# Altium schematic symbol library DCDC_Converter_4_Channel.SchLib: 27 symbols
Pins are listed as number, name and electrical type; pins without a type are passive.

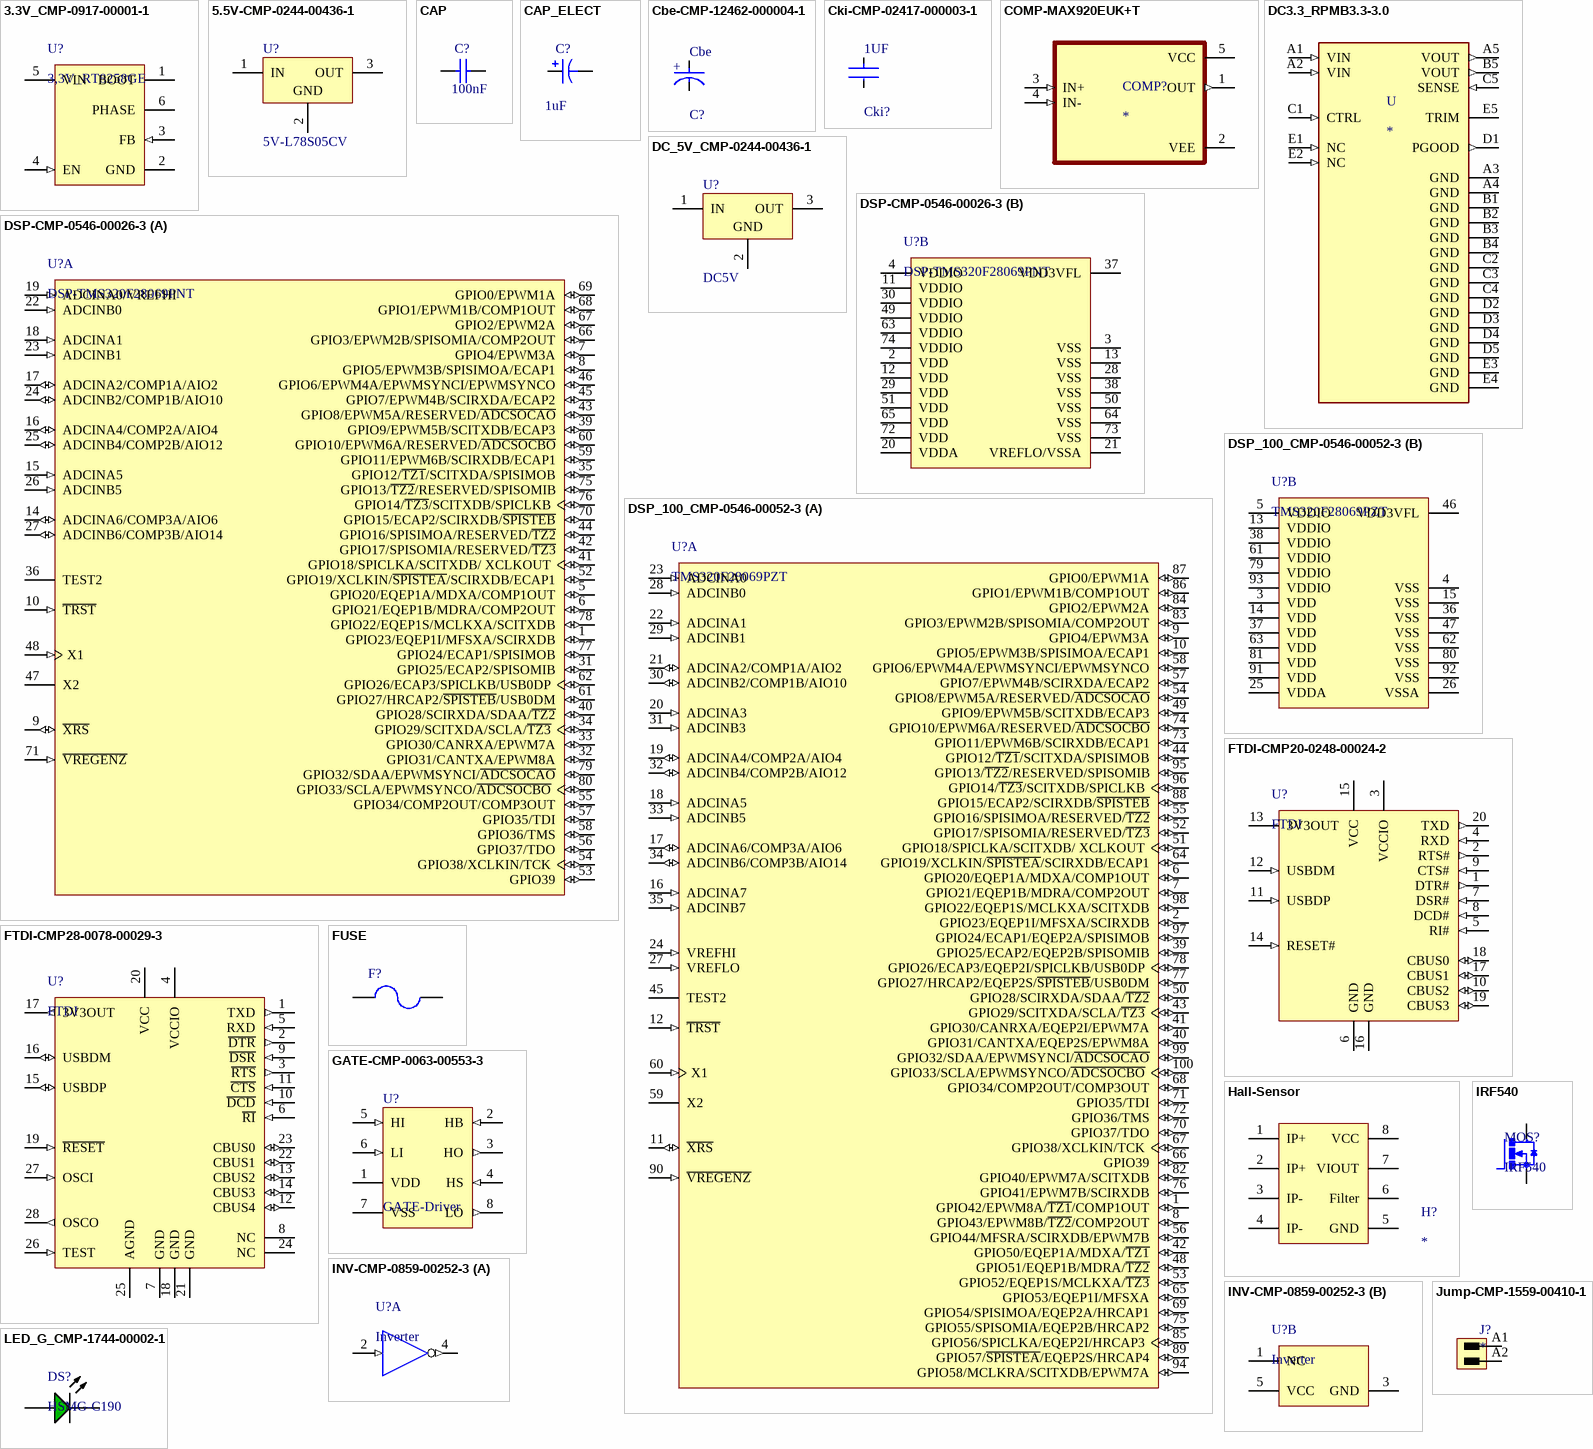
[diagram p0: symbols 3.3V_CMP-0917-00001-1 to LED_G_CMP-1744-00002-1]

## 3.3V_CMP-0917-00001-1
designator U?, comment 3,3V_RT8258GE
1.2 A, 24 V, 700 kHz Step-Down Converter, -40 to 85 degC, 6-Pin SOT-23, RoHS; Manufacturer: Richtek Technology; Output Current: 1.2 A; Wide Operating Input Voltage Range: 4.5 to 24 V; Switch on Resistance: 0.3 Ohm; Fixed Switching Frequency: 700 kHz; Adjustable Output Voltage Range: 0.8 to 15 V; PackageReference: SOT-23-6; PartNumber: RT8258GE; PackageDescription: 6-Pin Small Outline Transistor, Body 2.8955 x 1.6 mm, Pitch 0.9395 mm; ComponentLink2URL: http://www.richtek.com/download_ds.jsp?s=420; ComponentLink1URL: http://www.richtek.com/; Mounting Technology: Surface Mount; RoHS: TRUE; ComponentLink1Description: Manufacturer URL; DatasheetVersion: Dec-11; Temperature Range: -40 to 85 degC; ComponentLink2Description: Datasheet
footprint RCHT-SOT-23-6_N (SOT23, 6-Leads, Body 3.1x1.8mm, Pitch 0.95mm, IPC Medium Density)
pins: 1 BOOT "Gate Driver Bootstrap Input Pin. Connect a 10nF or greater capacitor between PHASE and BOOT pins to supply the MOSFET driver.", 2 GND (power) "Ground Pin. This pin should be connected to the (-) terminal of the output capacitor and it should be kept away from the D1 and input capacitor for noise prevention.", 3 FB (in) "Output Voltage Feedback Input Pin. An external resistor divider from the output to GND tapped to the FB pin sets the output voltage. The value of the divider resistors also set loop bandwidth.", 4 EN (in) "Chip Enable (Active High). If the EN pin is open, it will be pulled to high by internal circuit.", 5 VIN (power) "Power Supply Input Pin. Bypass VIN to GND with a suitable large capacitor to prevent large voltage spikes from appearing at the input.", 6 PHASE (power) "Power Switching Output Pin. Connect this pin to the output inductor."

## 5.5V-CMP-0244-00436-1
designator U?, comment 5V-L78S05CV
2A Positive Voltage Regulator, 5V, 3-Pin TO-220; PackageVersion: ver3.0; ComponentLink2URL: http://www.st.com/internet/com/TECHNICAL_RESOURCES/TECHNICAL_LITERATURE/DATASHEET/CD00000449.pdf; ComponentLink1Description: Manufacturer URL; DatasheetVersion: 1/03/2010; PackageDescription: TO, Thru-Hole, Vertical, Heatsink Mounted; 3 In-Line Leads; Pitch 2.54 mm; ComponentLink2Description: Datasheet; ComponentLink1URL: http://www.st.com; ComponentLink3Description: Package Specification; PackageReference: TO220; ComponentLink3URL: http://www.st.com/internet/com/TECHNICAL_RESOURCES/TECHNICAL_LITERATURE/PACKAGE_INFORMATION/CD00004649.pdf
footprint TO220 (TO, Thru-Hole, Vertical, Heatsink Mounted; 3 In-Line Leads; Pitch 2.54 mm)
pins: 1 IN (power), 2 GND (power), 3 OUT (power)

## CAP
designator C?, comment 100nF
Capacitor; Value: 100nF
footprint FP_0603_CAP_080 (0.8mm magas 0603 kapacitás)
footprint FP_0805_CAP_085 (0805 kapacitás YAGEO 0.85mm magas)
footprint FP_1206_CAP_125 (1206 kapacitás 1.25 mm)
pins: 1, 2

## CAP_ELECT
designator C?, comment 1uF
Polarized Capacitor; Value: 1uF
footprint FP_3528 (3528 TANTÁL SMD "B"-TOK)
footprint FP_6032
footprint FP_7343
pins: N, P
1 alternate drawing of the same symbol

## Cbe-CMP-12462-000004-1
designator C?, comment Cbe
CAP ALUM 100UF 20% 100V RADIAL / UBX2A101MHL; Manufacturer: Nichicon; Material: Aluminum; Automotive Grade: Grade 0; Ripple Current: 950mA; Leakage Current: 300uA; Life: 1000Hours; Dissipation Factor: 8%; Digikey Description: CAP ALUM 100UF 20% 100V RADIAL; Ipc Land Pattern Name: CAPRD500W75D1300H2650; Value: 100uF; Device Class L3: Aluminum Electrolytic Capacitors; Temperature Range Low: -55°C; Automotive: Yes; Lead Free: Yes; Package: 0; Voltage Rating: 100V; ComponentLink2URL: https://products.nichicon.co.jp/en/pdf/XJA043/e-ubx.pdf; Category: Cap; Device Class L2: Capacitors; Height: 26.5mm; Tolerance: 20%; Temperature Range High: +150°C; Octopart: https://octopart.com/ubx2a101mhl-nichicon-19783083; RoHS: TRUE; Device Class L1: Passive Components; Capacitance: 100uF; ComponentLink2Description: Datasheet; Manufacturer Part Number: UBX2A101MHL; Temperature: -55°C to +150°C
footprint FP-UBX2A101MHL-MFG
pins: 1 C, 2 A
text: +

## Cki-CMP-02417-000003-1
designator Cki?, comment 1UF
CAP CER 1UF 50V Y5V RADIAL / K105Z20Y5VF5TL2; Manufacturer: Vishay BC Components; Tolerance: -20+80%; Capacitance: 1uF; Temperature Characteristic: Y5V; Mouser Description: Multilayer Ceramic Capacitors MLCC - Leaded 1uF 50volts +80/-20% Y5V 2.5mm LS; Lead Free: Yes; RoHS: TRUE; Voltage Rating: 50V; Device Class L1: Passive Components; Octopart: https://octopart.com/k105z20y5vf5tl2-vishay-39475252; Temperature Range Low: -30°C; Digikey Description: CAP CER 1UF 50V Y5V RADIAL; Material: Ceramic; Manufacturer Part Number: K105Z20Y5VF5TL2; Device Class L2: Capacitors; Temperature: -30°C to +85°C; Package: K105Z20Y5VF5TL2; Temperature Range High: +85°C; ComponentLink2Description: Datasheet; Value: 1uF; Category: Cap; Height: 6.6mm; ComponentLink2URL: https://www.vishay.com/docs/45171/kseries.pdf; Device Class L3: Ceramic Capacitors; Automotive: No
footprint FP-K105Z20Y5VF5TL2-MFG
pins: 1, 2

## COMP-MAX920EUK+T
designator COMP?
MAX920 Series 5.5 V 1 nA SMT Single General Purpose Comparator - SOT-23-5; MF: Maxim Integrated; MP: MAX920EUK+T; SnapEDA_Link: https://www.snapeda.com/parts/MAX920EUK+T/Maxim%20Integrated/view-part/1229989/?ref=snap; Price: None; Package: SOT-23-5 Maxim; Value: *; Availability: Unavailable
footprint SOT95P280X145-5N
pins: 1 OUT (out), 2 VEE (power), 3 IN+ (in), 4 IN- (in), 5 VCC (power)

## DC3.3_RPMB3.3-3.0
designator U
Non-Isolated PoL Module DC DC Converter 1 Output 3.3V 3A 4V - 36V Input; MP: RPMB3.3-3.0; MF: Recom Power; Value: *; SnapEDA_Link: https://www.snapeda.com/parts/RPMB3.3-3.0/Recom%20Power/view-part/4614067/?ref=snap; Price: None; Package: BLGA-25 Recom Power; Availability: Unavailable
footprint LGA25S229P5X5_1219X1219X400
pins: A1 VIN (in), A2 VIN (in), A3 GND (power), A4 GND (power), A5 VOUT (out), B1 GND (power), B2 GND (power), B3 GND (power), B4 GND (power), B5 VOUT (out), C1 CTRL (in), C2 GND (power), C3 GND (power), C4 GND (power), C5 SENSE (in), D1 PGOOD (out), D2 GND (power), D3 GND (power), D4 GND (power), D5 GND (power), E1 NC (in), E2 NC (in), E3 GND (power), E4 GND (power), E5 TRIM

## DC_5V_CMP-0244-00436-1
designator U?, comment DC5V
2A Positive Voltage Regulator, 5V, 3-Pin TO-220 / L78S05CV; PackageVersion: ver3.0; ComponentLink2URL: http://www.st.com/internet/com/TECHNICAL_RESOURCES/TECHNICAL_LITERATURE/DATASHEET/CD00000449.pdf; ComponentLink1Description: Manufacturer URL; DatasheetVersion: 1/03/2010; PackageDescription: TO, Thru-Hole, Vertical, Heatsink Mounted; 3 In-Line Leads; Pitch 2.54 mm; ComponentLink2Description: Datasheet; ComponentLink1URL: http://www.st.com; ComponentLink3Description: Package Specification; PackageReference: TO220; ComponentLink3URL: http://www.st.com/internet/com/TECHNICAL_RESOURCES/TECHNICAL_LITERATURE/PACKAGE_INFORMATION/CD00004649.pdf
footprint TO220 (TO, Thru-Hole, Vertical, Heatsink Mounted; 3 In-Line Leads; Pitch 2.54 mm)
pins: 1 IN (power), 2 GND (power), 3 OUT (power)

## DSP-CMP-0546-00026-3
designator U?, comment DSP-TMS320F28069PNT
Piccolo Microcontroller, High-Efficiency 32-Bit CPU, 100 KB, 90 MHz, FPU, VCU, 17 Ch PWM, 40 GPIO, 3.3 V, -40 to 105 degC, 80-Pin LQFP (PN), Green (RoHS & no Sb/Br); Manufacturer: Texas Instruments; CPU: C28x; Timers: 3 32-Bit GP 1 WD; IO Supply (V): 3.3; VCU: Yes; RAM (KB): 100; CAP/QEP: 4/1; CLA: 1; GPIO: 40; USB: 0; Frequency (MHz): 90; 12-bit A/D (#Channels): 14; PWM (Ch): 17; ComponentLink1Description: Manufacturer URL; PackageDescription: 80-Pin Plastic Quad Flat Package, Body 12 x 12 mm, Pitch 0.5 mm; DatasheetVersion: SPRS698D; ComponentLink3Description: Package Specification; Eco Plan: Green (RoHS & no Sb/Br); Mounting Technology: Surface Mount; PartNumber: TMS320F28069PNT; PackageReference: PN0080A; ComponentLink2Description: Datasheet; PackageVersion: 4040135/B; ComponentLink1URL: http://www.ti.com/; FPU: Yes; ComponentLink3URL: http://www.ti.com/lit/ds/symlink/tms320f28066.pdf; ComponentLink2URL: http://www.ti.com/lit/ds/symlink/tms320f28069.pdf; Peak MMACS: 90; Operating Temperature Range (degC): -40 to 105
footprint PN0080A_M (QFP, 80-Leads, Body 12x12mm, Pitch 0.5mm, IPC Low Density)
part A pins: 1 GPIO23/EQEP1I/MFSXA/SCIRXDB (io), 5 GPIO20/EQEP1A/MDXA/COMP1OUT (io), 6 GPIO21/EQEP1B/MDRA/COMP2OUT (io), 7 GPIO4/EPWM3A (io), 8 GPIO5/EPWM3B/SPISIMOA/ECAP1 (io), 9 ~{XRS} (io) "Device Reset (in) and Watchdog Reset (out). Piccolo devices have a built-in power-onreset (POR) and brown-out-reset (BOR) circuitry. As such, no external circuitry is needed to generate a reset pulse. [see datasheet]", 10 ~{TRST} (in) "JTAG test reset with internal pulldown. T\R\S\T\, when driven high, gives the scan system control of the operations of the device. If this signal is not connected or driven low, the device operates in its functional mode", 14 ADCINA6/COMP3A/AIO6 (io), 15 ADCINA5 (in) "ADC Group A, Channel 5 input", 16 ADCINA4/COMP2A/AIO4 (io), 17 ADCINA2/COMP1A/AIO2 (io), 18 ADCINA1 (in) "ADC Group A, Channel 1 input", 19 ADCINA0/VREFHI (in), 22 ADCINB0 (in) "ADC Group B, Channel 0 input", 23 ADCINB1 (in) "ADC Group B, Channel 1 input", 24 ADCINB2/COMP1B/AIO10 (io), 25 ADCINB4/COMP2B/AIO12 (io), 26 ADCINB5 (in) "ADC Group B, Channel 5 input", 27 ADCINB6/COMP3B/AIO14 (io), 31 GPIO25/ECAP2/SPISOMIB (io), 32 GPIO31/CANTXA/EPWM8A (io), 33 GPIO30/CANRXA/EPWM7A (io), 34 GPIO29/SCITXDA/SCLA/~{TZ3} (io), 35 GPIO12/~{TZ1}/SCITXDA/SPISIMOB (io), 36 TEST2 "Test Pin. Reserved for TI. Must be left unconnected.", 39 GPIO9/EPWM5B/SCITXDB/ECAP3 (io), 40 GPIO28/SCIRXDA/SDAA/~{TZ2} (io), 41 GPIO18/SPICLKA/SCITXDB/ XCLKOUT (io), 42 GPIO17/SPISOMIA/RESERVED/~{TZ3} (io), 43 GPIO8/EPWM5A/RESERVED/~{ADCSOCAO} (io), 44 GPIO16/SPISIMOA/RESERVED/~{TZ2} (io), 45 GPIO7/EPWM4B/SCIRXDA/ECAP2 (io), 46 GPIO6/EPWM4A/EPWMSYNCI/EPWMSYNCO (io), 47 X2 "On-chip crystal-oscillator output. A quartz crystal or a ceramic resonator must be connected across X1 and X2. If X2 is not used, it must be left unconnected.", 48 X1 (in) "On-chip crystal-oscillator input. To use this oscillator, a quartz crystal or a ceramic resonator must be connected across X1 and X2. In this case, the XCLKIN path must be disabled by bit 13 in the CLKCTL register.", 52 GPIO19/XCLKIN/~{SPISTEA}/SCIRXDB/ECAP1 (io), 53 GPIO39 (io) "General-purpose input/output 39", 54 GPIO38/XCLKIN/TCK (io), 55 GPIO34/COMP2OUT/COMP3OUT (io), 56 GPIO37/TDO (io), 57 GPIO35/TDI (io), 58 GPIO36/TMS (io), 59 GPIO11/EPWM6B/SCIRXDB/ECAP1 (io), 60 GPIO10/EPWM6A/RESERVED/~{ADCSOCBO} (io), 61 GPIO27/HRCAP2/~{SPISTEB}/USB0DM (io), 62 GPIO26/ECAP3/SPICLKB/USB0DP (io), 66 GPIO3/EPWM2B/SPISOMIA/COMP2OUT (io), 67 GPIO2/EPWM2A (io), 68 GPIO1/EPWM1B/COMP1OUT (io), 69 GPIO0/EPWM1A (io), 70 GPIO15/ECAP2/SCIRXDB/~{SPISTEB} (io), 71 ~{VREGENZ} (in) "Internal VREG Enable/Disable. Pull low to enable VREG, pull high to disable VREG.", 75 GPIO13/~{TZ2}/RESERVED/SPISOMIB (io), 76 GPIO14/~{TZ3}/SCITXDB/SPICLKB (io), 77 GPIO24/ECAP1/SPISIMOB (io), 78 GPIO22/EQEP1S/MCLKXA/SCITXDB (io), 79 GPIO32/SDAA/EPWMSYNCI/~{ADCSOCAO} (io), 80 GPIO33/SCLA/EPWMSYNCO/~{ADCSOCBO} (io)
part B pins: 2 VDD (power) "CPU and Logic Digital Power Pins - no supply source needed when using internal VREG. Tie with 1.2 uF (minimum) ceramic capacitor (10% tolerance) to ground when using internal VREG. Higher value capacitors may be used, but could impact supplyrail ramp-up", 3 VSS (power) "Digital Ground Pins", 4 VDDIO (power) "Digital I/O and Flash Power Pin - Single Supply source when VREG is enabled.", 11 VDDIO (power) "Digital I/O and Flash Power Pin - Single Supply source when VREG is enabled.", 12 VDD (power) "CPU and Logic Digital Power Pins - no supply source needed when using internal VREG. Tie with 1.2 uF (minimum) ceramic capacitor (10% tolerance) to ground when using internal VREG. Higher value capacitors may be used, but could impact supplyrail ramp-up", 13 VSS (power) "Digital Ground Pins", 20 VDDA (power) "Analog Power Pin. Tie with a 2.2-uF capacitor (typical) close to the pin.", 21 VREFLO/VSSA (power) "NOTE: VREFLO is always connected to VSSA on the 80-pin PN and PFP devices.", 28 VSS (power) "Digital Ground Pins", 29 VDD (power) "CPU and Logic Digital Power Pins - no supply source needed when using internal VREG. Tie with 1.2 uF (minimum) ceramic capacitor (10% tolerance) to ground when using internal VREG. Higher value capacitors may be used, but could impact supplyrail ramp-up", 30 VDDIO (power) "Digital I/O and Flash Power Pin - Single Supply source when VREG is enabled.", 37 VDD3VFL (power) "3.3-V Flash Core Power Pin. This pin should be connected to 3.3 V at all times.", 38 VSS (power) "Digital Ground Pins", 49 VDDIO (power) "Digital I/O and Flash Power Pin - Single Supply source when VREG is enabled.", 50 VSS (power) "Digital Ground Pins", 51 VDD (power) "CPU and Logic Digital Power Pins - no supply source needed when using internal VREG. Tie with 1.2 uF (minimum) ceramic capacitor (10% tolerance) to ground when using internal VREG. Higher value capacitors may be used, but could impact supplyrail ramp-up", 63 VDDIO (power) "Digital I/O and Flash Power Pin - Single Supply source when VREG is enabled.", 64 VSS (power) "Digital Ground Pins", 65 VDD (power) "CPU and Logic Digital Power Pins - no supply source needed when using internal VREG. Tie with 1.2 uF (minimum) ceramic capacitor (10% tolerance) to ground when using internal VREG. Higher value capacitors may be used, but could impact supplyrail ramp-up", 72 VDD (power) "CPU and Logic Digital Power Pins - no supply source needed when using internal VREG. Tie with 1.2 uF (minimum) ceramic capacitor (10% tolerance) to ground when using internal VREG. Higher value capacitors may be used, but could impact supplyrail ramp-up", 73 VSS (power) "Digital Ground Pins", 74 VDDIO (power) "Digital I/O and Flash Power Pin - Single Supply source when VREG is enabled."

## DSP_100_CMP-0546-00052-3
designator U?, comment TMS320F28069PZT
Piccolo Microcontroller, High-Efficiency 32-Bit CPU, 100 KB, 90 MHz, FPU, VCU, 19 Ch PWM, 54 GPIO, 3.3 V, -40 to 105 degC, 100-Pin LQFP (PZ), Green (RoHS & no Sb/Br); Manufacturer: Texas Instruments; CAP/QEP: 7/2; Peak MMACS: 90; IO Supply (V): 3.3; 12-bit A/D (#Channels): 16; PWM (Ch): 19; CLA: 1; Timers: 3 32-Bit GP 1 WD; VCU: Yes; RAM (KB): 100; CPU: C28x; GPIO: 54; USB: 0; PackageVersion: 4040149/B; Operating Temperature Range (degC): -40 to 105; Mounting Technology: Surface Mount; ComponentLink2URL: http://www.ti.com/lit/ds/symlink/tms320f28069.pdf; DatasheetVersion: SPRS698D; PartNumber: TMS320F28069PZT; FPU: Yes; Frequency (MHz): 90; ComponentLink3Description: Package Specification; ComponentLink3URL: http://www.ti.com/lit/ds/symlink/tms320f28066.pdf; PackageDescription: 100-Pin Plastic Quad Flat Package, Body 14 x 14 mm, Pitch 0.5 mm; PackageReference: PZ0100A; ComponentLink1URL: http://www.ti.com/; ComponentLink2Description: Datasheet; ComponentLink1Description: Manufacturer URL; Eco Plan: Green (RoHS & no Sb/Br)
footprint PZ0100A_N (QFP,100-Leads, Body 14x14mm, Pitch 0.5mm, IPC Medium Density)
part A pins: 1 GPIO42/EPWM8A/~{TZ1}/COMP1OUT (io), 2 GPIO23/EQEP1I/MFSXA/SCIRXDB (io), 6 GPIO20/EQEP1A/MDXA/COMP1OUT (io), 7 GPIO21/EQEP1B/MDRA/COMP2OUT (io), 8 GPIO43/EPWM8B/~{TZ2}/COMP2OUT (io), 9 GPIO4/EPWM3A (io), 10 GPIO5/EPWM3B/SPISIMOA/ECAP1 (io), 11 ~{XRS} (io) "Device Reset (in) and Watchdog Reset (out). Piccolo devices have a built-in power-onreset (POR) and brown-out-reset (BOR) circuitry. As such, no external circuitry is needed to generate a reset pulse. [see datasheet]", 12 ~{TRST} (in) "JTAG test reset with internal pulldown. T\R\S\T\, when driven high, gives the scan system control of the operations of the device. If this signal is not connected or driven low, the device operates in its functional mode", 16 ADCINA7 (in) "ADC Group A, Channel 7 input", 17 ADCINA6/COMP3A/AIO6 (io), 18 ADCINA5 (in) "ADC Group A, Channel 5 input", 19 ADCINA4/COMP2A/AIO4 (io), 20 ADCINA3 (in) "ADC Group A, Channel 3 input", 21 ADCINA2/COMP1A/AIO2 (io), 22 ADCINA1 (in) "ADC Group A, Channel 1 input", 23 ADCINA0 (in) "ADC Group A, Channel 0 input.", 24 VREFHI (in) "ADC External Reference - only used when in ADC external reference mode.", 27 VREFLO (in), 28 ADCINB0 (in) "ADC Group B, Channel 0 input", 29 ADCINB1 (in) "ADC Group B, Channel 1 input", 30 ADCINB2/COMP1B/AIO10 (io), 31 ADCINB3 (in) "ADC Group B, Channel 3 input", 32 ADCINB4/COMP2B/AIO12 (io), 33 ADCINB5 (in) "ADC Group B, Channel 5 input", 34 ADCINB6/COMP3B/AIO14 (io), 35 ADCINB7 (in) "ADC Group B, Channel 7 input", 39 GPIO25/ECAP2/EQEP2B/SPISOMIB (io), 40 GPIO31/CANTXA/EQEP2S/EPWM8A (io), 41 GPIO30/CANRXA/EQEP2I/EPWM7A (io), 42 GPIO50/EQEP1A/MDXA/~{TZ1} (io), 43 GPIO29/SCITXDA/SCLA/~{TZ3} (io), 44 GPIO12/~{TZ1}/SCITXDA/SPISIMOB (io), 45 TEST2 "Test Pin. Reserved for TI. Must be left unconnected.", 48 GPIO51/EQEP1B/MDRA/~{TZ2} (io), 49 GPIO9/EPWM5B/SCITXDB/ECAP3 (io), 50 GPIO28/SCIRXDA/SDAA/~{TZ2} (io), 51 GPIO18/SPICLKA/SCITXDB/ XCLKOUT (io), 52 GPIO17/SPISOMIA/RESERVED/~{TZ3} (io), 53 GPIO52/EQEP1S/MCLKXA/~{TZ3} (io), 54 GPIO8/EPWM5A/RESERVED/~{ADCSOCAO} (io), 55 GPIO16/SPISIMOA/RESERVED/~{TZ2} (io), 56 GPIO44/MFSRA/SCIRXDB/EPWM7B (io), 57 GPIO7/EPWM4B/SCIRXDA/ECAP2 (io), 58 GPIO6/EPWM4A/EPWMSYNCI/EPWMSYNCO (io), 59 X2 "On-chip crystal-oscillator output. A quartz crystal or a ceramic resonator must be connected across X1 and X2. If X2 is not used, it must be left unconnected.", 60 X1 (in) "On-chip crystal-oscillator input. To use this oscillator, a quartz crystal or a ceramic resonator must be connected across X1 and X2. In this case, the XCLKIN path must be disabled by bit 13 in the CLKCTL register.", 64 GPIO19/XCLKIN/~{SPISTEA}/SCIRXDB/ECAP1 (io), 65 GPIO53/EQEP1I/MFSXA (io), 66 GPIO39 (io) "General-purpose input/output 39", 67 GPIO38/XCLKIN/TCK (io), 68 GPIO34/COMP2OUT/COMP3OUT (io), 69 GPIO54/SPISIMOA/EQEP2A/HRCAP1 (io), 70 GPIO37/TDO (io), 71 GPIO35/TDI (io), 72 GPIO36/TMS (io), 73 GPIO11/EPWM6B/SCIRXDB/ECAP1 (io), 74 GPIO10/EPWM6A/RESERVED/~{ADCSOCBO} (io), 75 GPIO55/SPISOMIA/EQEP2B/HRCAP2 (io), 76 GPIO41/EPWM7B/SCIRXDB (io), 77 GPIO27/HRCAP2/EQEP2S/~{SPISTEB}/USB0DM (io), 78 GPIO26/ECAP3/EQEP2I/SPICLKB/USB0DP (io), 82 GPIO40/EPWM7A/SCITXDB (io), 83 GPIO3/EPWM2B/SPISOMIA/COMP2OUT (io), 84 GPIO2/EPWM2A (io), 85 GPIO56/SPICLKA/EQEP2I/HRCAP3 (io), 86 GPIO1/EPWM1B/COMP1OUT (io), 87 GPIO0/EPWM1A (io), 88 GPIO15/ECAP2/SCIRXDB/~{SPISTEB} (io), 89 GPIO57/~{SPISTEA}/EQEP2S/HRCAP4 (io), 90 ~{VREGENZ} (in) "Internal VREG Enable/Disable. Pull low to enable VREG, pull high to disable VREG.", 94 GPIO58/MCLKRA/SCITXDB/EPWM7A (io), 95 GPIO13/~{TZ2}/RESERVED/SPISOMIB (io), 96 GPIO14/~{TZ3}/SCITXDB/SPICLKB (io), 97 GPIO24/ECAP1/EQEP2A/SPISIMOB (io), 98 GPIO22/EQEP1S/MCLKXA/SCITXDB (io), 99 GPIO32/SDAA/EPWMSYNCI/~{ADCSOCAO} (io), 100 GPIO33/SCLA/EPWMSYNCO/~{ADCSOCBO} (io)
part B pins: 3 VDD (power) "CPU and Logic Digital Power Pins - no supply source needed when using internal VREG. Tie with 1.2 uF (minimum) ceramic capacitor (10% tolerance) to ground when using internal VREG. Higher value capacitors may be used, but could impact supplyrail ramp-up", 4 VSS (power) "Digital Ground Pins", 5 VDDIO (power) "Digital I/O and Flash Power Pin - Single Supply source when VREG is enabled.", 13 VDDIO (power) "Digital I/O and Flash Power Pin - Single Supply source when VREG is enabled.", 14 VDD (power) "CPU and Logic Digital Power Pins - no supply source needed when using internal VREG. Tie with 1.2 uF (minimum) ceramic capacitor (10% tolerance) to ground when using internal VREG. Higher value capacitors may be used, but could impact supplyrail ramp-up", 15 VSS (power) "Digital Ground Pins", 25 VDDA (power) "Analog Power Pin. Tie with a 2.2-uF capacitor (typical) close to the pin.", 26 VSSA (power) "Analog Ground Pin.", 36 VSS (power) "Digital Ground Pins", 37 VDD (power) "CPU and Logic Digital Power Pins - no supply source needed when using internal VREG. Tie with 1.2 uF (minimum) ceramic capacitor (10% tolerance) to ground when using internal VREG. Higher value capacitors may be used, but could impact supplyrail ramp-up", 38 VDDIO (power) "Digital I/O and Flash Power Pin - Single Supply source when VREG is enabled.", 46 VDD3VFL (power) "3.3-V Flash Core Power Pin. This pin should be connected to 3.3 V at all times.", 47 VSS (power) "Digital Ground Pins", 61 VDDIO (power) "Digital I/O and Flash Power Pin - Single Supply source when VREG is enabled.", 62 VSS (power) "Digital Ground Pins", 63 VDD (power) "CPU and Logic Digital Power Pins - no supply source needed when using internal VREG. Tie with 1.2 uF (minimum) ceramic capacitor (10% tolerance) to ground when using internal VREG. Higher value capacitors may be used, but could impact supplyrail ramp-up", 79 VDDIO (power) "Digital I/O and Flash Power Pin - Single Supply source when VREG is enabled.", 80 VSS (power) "Digital Ground Pins", 81 VDD (power) "CPU and Logic Digital Power Pins - no supply source needed when using internal VREG. Tie with 1.2 uF (minimum) ceramic capacitor (10% tolerance) to ground when using internal VREG. Higher value capacitors may be used, but could impact supplyrail ramp-up", 91 VDD (power) "CPU and Logic Digital Power Pins - no supply source needed when using internal VREG. Tie with 1.2 uF (minimum) ceramic capacitor (10% tolerance) to ground when using internal VREG. Higher value capacitors may be used, but could impact supplyrail ramp-up", 92 VSS (power) "Digital Ground Pins", 93 VDDIO (power) "Digital I/O and Flash Power Pin - Single Supply source when VREG is enabled."

## FTDI-CMP20-0248-00024-2
designator U?, comment FTDI
USB to Full-Handshake UART Interface Chip, UHCI/OHCI/EHCI Compatible, USB 2.0 Compatible, -40 to +85 degC, 20-Pin SSOP, Pb-Free, Tape and Reel / FT231XS-R; PackageVersion: Feb-13; Manufacturer: FTDI; PackageReference: FTDI-SSOP-20; ComponentLink1Description: Manufacturer URL; ComponentLink2Description: Datasheet; PackageDescription: 20-Pin Small Outline Package, 8.6 x 3.9 mm Body, 0.635 mm Pitch; ComponentLink3URL: www.ftdichip.com/Products/ICs/FT231X.html; PartNumber: FT231XS-R; DatasheetVersion: ver 1.2, Feb-2013; ComponentLink2URL: http://www.ftdichip.com/Support/Documents/DataSheets/ICs/DS_FT231X.pdf; Code_JEDEC: MO-137-AD; ComponentLink3Description: FT231X Product Page; RevisionNote: DatasheetVersion updated to 1.2 Feb-2013; ComponentLink1URL: http://www.ftdichip.com/
footprint SSOP-20_N (SOP, 20-Leads, Body 8.6x3.9mm, Pitch 0.635mm, IPC Medium Density)
pins: 1 DTR# (out) "Data Terminal Ready Control Output / Handshake Signal.", 2 RTS# (out) "Request to Send Control Output / Handshake Signal.", 3 VCCIO (power) "1V8 -3V3 supply for the IO cells.", 4 RXD (in) "Receiving Asynchronous Data Input.", 5 RI# (in) "Ring Indicator input for remote wake up.", 6 GND (power) "0V Ground input.", 7 DSR# (in) "Data Set Ready Control Input / Handshake Signal.", 8 DCD# (in) "Data Carrier Detect Control Input.", 9 CTS# (in) "Clear To Send Control Input / Handshake Signal.", 10 CBUS2 (io) "Configurable CBUS I/O Pin. Function of this pin is configured in the device MTP memory. The default configuration is TXLED#.", 11 USBDP (in) "USB Data Signal Plus.", 12 USBDM (in) "USB Data Signal Minus.", 13 3V3OUT (power) "3V3 output at 50mA. May be used to power VCCIO. When VCC is 3V3, pin 13 is an input pin.", 14 RESET# (in) "Reset input (active low).", 15 VCC (power) "5 V (or 3V3) supply to IC.", 16 GND (power) "0V Ground input.", 17 CBUS1 (io) "Configurable CBUS I/O Pin. Function of this pin is configured in the device MTP memory. The default configuration is RXLED#.", 18 CBUS0 (io) "Configurable CBUS I/O Pin. Function of this pin is configured in the device MTP memory. The default configuration is TXDEN.", 19 CBUS3 (io) "Configurable CBUS I/O Pin. Function of this pin is configured in the device MTP memory. The default configuration is SLEEP#.", 20 TXD (out) "Transmit Asynchronous Data Output."

## FTDI-CMP28-0078-00029-3
designator U?, comment FTDI
USB UART Asynchronous Serial Data Transfer Chip, 28-pin SSOP, Tape and Reel; PartNumber: FT232RL-Reel; PackageVersion: Mar-12; PackageReference: SSOP-28; ComponentLink2Description: Datasheet; DatasheetVersion: ver 2.10, Mar-2012; PackageDescription: 28-Pin Small Outline Package 0.65 mm Pitch; ComponentLink1Description: Manufacturer URL; RevisionNote: DatasheetVersion updated to 2.10 Mar-2012; ComponentLink1URL: http://www.ftdichip.com/; Manufacturer: FTDI; ComponentLink2URL: http://www.ftdichip.com/Support/Documents/DataSheets/ICs/DS_FT232R.pdf
footprint SSOP-28_L (SOP, 28-Leads, Body 10.2x5.3mm, Pitch 0.65mm, IPC High Density)
footprint SSOP-28_N (SOP, 28-Leads, Body 10.2x5.3mm, Pitch 0.65mm, IPC Medium Density)
footprint SSOP-28_M (SOP, 28-Leads, Body 10.2x5.3mm, Pitch 0.65mm, IPC Low Density)
pins: 1 TXD (out), 2 ~{DTR} (out), 3 ~{RTS} (out), 4 VCCIO (power), 5 RXD (in), 6 ~{RI} (in), 7 GND (power), 8 NC, 9 ~{DSR} (in), 10 ~{DCD} (in), 11 ~{CTS} (in), 12 CBUS4 (io), 13 CBUS2 (io), 14 CBUS3 (io), 15 USBDP (io), 16 USBDM (io), 17 3V3OUT (out), 18 GND (power), 19 ~{RESET} (in), 20 VCC (power), 21 GND (power), 22 CBUS1 (io), 23 CBUS0 (io), 24 NC, 25 AGND (power), 26 TEST (in), 27 OSCI (in), 28 OSCO (out)

## FUSE
designator F?
0686F5000-01; SnapEDA_Link: https://www.snapeda.com/parts/0686F5000-01/Bel%20Fuse/view-part/4615368/?ref=snap; Value: *
footprint *FUSC1608X60N
pins: 1, 2

## GATE-CMP-0063-00553-3
designator U?, comment GATE-Driver
3A High Voltage High-Side and Low-Side Gate Driver, 8-pin Narrow SOIC, Pb-Free / LM5100AMX/NOPB; Manufacturer: Texas Instruments; PowerWise: N; PackageTopMarking: NSZXTT*L5100*AM; CompType: MiscPower; RoHS: Y; PinCount: 8; PackageDescription: SOIC Narrow, 4.9 x 3.9 x 1.45mm, 8 Lead, 1.27mm Pitch; Code_JEDEC: MS-012-AA; PackageReference: D0008A; Code_IPC: SOIC127P600-8; ComponentLink1Description: Datasheet URL; ComponentLink1URL: http://www.ti.com/general/docs/lit/getliterature.tsp?genericPartNumber=LM5100A&fileType=pdf
footprint D0008A_N (SOIC, 8-Leads, Body 5x4mm, Pitch 1.27mm, IPC Medium Density)
pins: 1 VDD (power), 2 HB (in), 3 HO (out), 4 HS (in), 5 HI (in), 6 LI (in), 7 VSS (power), 8 LO (out)

## Hall-Sensor
designator H?
footprint *SOIC127P600X162-8N
pins: 1 IP+, 2 IP+, 3 IP-, 4 IP-, 5 GND, 6 Filter, 7 VIOUT, 8 VCC

## INV-CMP-0859-00252-3
designator U?, comment Inverter
Single Inverter, DCK0005A, LARGE T&R / SN74LVC1G04DCKR; Manufacturer: Texas Instruments; Input Type: CMOS/TTL; Output Drive (IOL/IOH)(Max)(mA): 32/-32; Sub-Family: Inverting Buffer/Driver; VCC(Min)(V): 1.65; Bits(#): 1; Schmitt Trigger: No; Technology Family: LVC; Rating: Catalog; ICC @ Nom Voltage(Max)(mA): 0.01; tpd @ Nom Voltage(Max)(ns): 7.5,5.2,4.2,3.7; Voltage(Nom)(V): 1.8,2.5,3.3,5; F @ Nom Voltage(Max)(Mhz): 150; Output Type: CMOS; VCC(Max)(V): 5.5; Logic: Inverting; PackageReference: DCK0005A; Generic Part Number: SN74LVC1G04; Operating Temperature Range(C): -40 to 125,-40 to 85; DatasheetVersion: SCES214AD; 3-State Output: No
footprint DCK0005A_N (SOT23, 5-Leads, Body 2.15x1.4mm, Pitch 0.65mm, IPC Medium Density)
part A pins: 2 A (in) "Input A", 4 Y (out) "Output Y"
part B pins: 1 NC "Ground", 3 GND (power) "Ground Pin", 5 VCC (power) "Power Pin"

## IRF540
designator MOS?
RoHS Compliant | Low RDS_on_ | Industry-leading quality | Dynamic dv/dt Rating | Fast Switching | Fully Avalanche Rated | 175C Operating Temperature; MP: IRF540NPBF; MF: Infineon; Value: *; Package: TO-220 Infineon; Price: None; Availability: Unavailable; SnapEDA_Link: https://www.snapeda.com/parts/IRF540NPBF/Infineon%20Technologies/view-part/1644188/?ref=snap
footprint D2PACK
pins: 1 G, 2 D, 3 S

## Jump-CMP-1559-00410-1
designator J?
OMNIMATE Signal - series BC/SC 3.81 / 1862920000; Manufacturer: Weidmueller; Insulating_material: LCP GF; Rated_current_min_no_of_poles_TU_20_deg_C: 19 A; Solder_pin_length_mm: 3.2 mm; Short_text_for_material: SC-SMT 3.81/02/180G 3.2SN BK BX; Pitch_inch: 0.15 inch; Pitch_mm: 3.81 mm; Contact_material: Cu-Leg; Rated_voltage_for_surge_voltage_class_pollution_degree_II_2: 320 V; Outgoing_elbow: 180°; Rated_current_use_group_B_UL_1059: 10 A; Rated_voltage_use_group_B_UL_1059: 300 V; No_of_poles: 2; Side_termination_characteristic: closed side; UL_94_flammability_rating: V-0; Contact_surface: tinned; Mounting_onto_the_PCB: Reflow solder connection; ComponentLink1URL: http://www.weidmueller.com/; ComponentLink2URL: http://catalog.weidmueller.com/catalog/Start.do?localeId=en&ObjectID=1862920000; PartNumber: 1862920000; PackageReference: SC_SMT_3_81_180G_02; Packaging: Box; Revision: V1; Colour: Black; ComponentLink1Description: Manufacturer URL; Qty: 50 PCS; ComponentLink2Description: URL Link1
footprint SC_SMT_3_81_180G_02 (OMNIMATE Signal - Serie BC/SC 3.81  SC-SMT 3.81/02/180G 3.2)
pins: A1, A2

## LED_G_CMP-1744-00002-1
designator DS?, comment HSMG-C190
Chip LED, Green, 2.2 V, -40 to 85 degC, 2-Pin SMD, RoHS, Tape and Reel; Frequency: 400 KHz; Max Supply Voltage: 5.5 V; Access Time: 3500 ns; Clock Frequency: 100 KHz; Case\Package: SOIC; Density: 32 kb; Nominal Supply Current: 2 mA; Interface: Serial; Min Supply Voltage: 1.7 V; Packaging: Tape and Reel; PackageReference: HSMX-C190; ComponentLink2URL: http://docs.avagotech.com/docs/AV02-0551EN; RoHSCompliant: true; Pins: 8; REACH SVHC: No SVHC; Max Operating Temperature: 85 degC; Width: 4 mm; Radiation Hardening: No; Package Quantity: 3000; ComponentLink3Description: Package Specification; ComponentLink1Description: Manufacturer URL; Min Operating Temperature: -40 degC; PackageDescription: 2-Pin Surface Mount Device, Body 1.6 x 0.8 mm, Height 0.9 mm; Max Clock Frequency: 100 KHz; Height: 1.5 mm; ComponentLink1URL: http://www.avagotech.com/; DatasheetVersion: Mar-12; ComponentLink2Description: Datasheet; Mount: Surface Mount; Length: 5 mm; ComponentLink3URL: http://www.fairchildsemi.com/dwg/MA/MA03D.pdf
footprint AVAG-HSMX-C190_V (SMD, 2-Leads, Body 1.6x0.8mm, Height 0.9mm)
pins: 1 A, 2 K

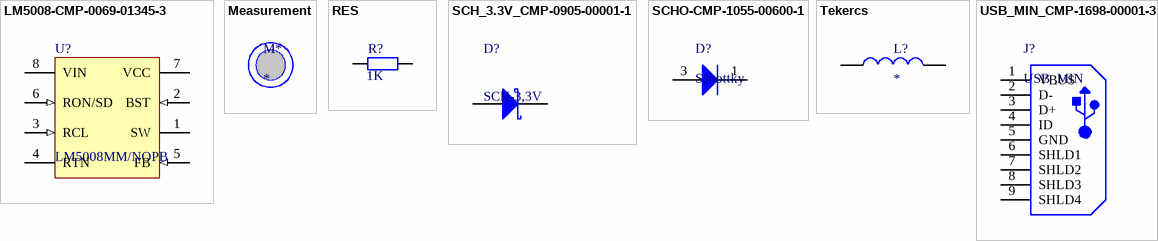
[diagram p1: symbols LM5008-CMP-0069-01345-3 to USB_MIN_CMP-1698-00001-3]

## LM5008-CMP-0069-01345-3
designator U?, comment LM5008MM/NOPB
High Voltage (100V) Step Down Switching Regulator, 8-pin MSOP, Pb-Free; Manufacturer: Texas Instruments; PackageTopMarking: ZXTT*SAYB; CompType: Switcher; PowerWise: N; RoHS: Y; PinCount: 8; ComponentLink1URL: http://www.ti.com/general/docs/lit/getliterature.tsp?genericPartNumber=LM5008&fileType=pdf; ComponentLink1Description: Datasheet URL; Code_JEDEC: MO-187-AA; PackageDescription: MINI SOIC, .118 x .118 x .034in, 8 Lead, .0256in Pitch; PackageReference: DGK0008A
footprint DGK0008A_N (TSOP, 8-Leads, Body 3.1x3.1mm, Pitch 0.65mm, IPC Medium Density)
pins: 1 SW (power), 2 BST (in), 3 RCL (in), 4 RTN (power), 5 FB (in), 6 RON/SD (in), 7 VCC (power), 8 VIN (power)

## Measurement
designator M*
Measurements point

## RES
designator R?, comment 1K
Resistor; Value: 1K
footprint FP_0603_RES (0603 ellenállás)
footprint FP_0805_RES (0805 ellenállás)
footprint FP_1206_RES (1206 ellenállás)
pins: 1, 2

## SCH_3.3V_CMP-0905-00001-1
designator D?, comment SCH-3,3V
2 A Surface Mount Schottky Barrier Rectifier, 30 V, -65 to 150 degC, 2-Pin SMA, RoHS, Tape and Reel / B230A-13-F; Manufacturer: Diodes Inc; VRRM: 30 V; IO: 2 A Max.; CT: 200 pF; IFSM: 50 A; VF: 0.5 V; IF: 2 A; ComponentLink1Description: Manufacturer URL; PackageDescription: 2-Pin SMA, Body 4.3 x 2.605 mm, Height 2.3 mm; Mounting Technology: Surface Mount; ComponentLink1URL: http://diodes.com/; VR: 30 V; PackageReference: SMA-2; RoHS: TRUE; ComponentLink2URL: http://diodes.com/datasheets/ds13004.pdf; Packing: Tape and Reel; DatasheetVersion: Rev. 21 - 2; ComponentLink2Description: Datasheet; Temperature Range: -65 to 150 degC; PartNumber: B230A-13-F
footprint DIOD-SMA-2_V (SMA, 2-Leads, Body 4.3x2.605mm, Height 2.3mm)
pins: 1 A, 2 K

## SCHO-CMP-1055-00600-1
designator D?, comment Schottky
SWITCHMODE(TM) Power Rectifier, 16 A, 45 V, 2-Pin TO-220, Tube / MBR1645; Manufacturer: On Semiconductor; IFSM Max (A): 150; Configuration: Single; Mounting Technology: Through Hole; ComponentLink1Description: Manufacturer URL; DatasheetVersion: Rev. 11; RoHS: FALSE; ComponentLink2URL: http://www.onsemi.cn/pub_link/Collateral/MBR1635-D.PDF; PackageVersion: Rev. E; PartNumber: MBR1645; ComponentLink3URL: http://www.onsemi.com/pub_link/Collateral/BYW29-D.PDF; PackageDescription: 2-Pin Flange Mount, Vertical Straight Lead, Body 9.97 x 4.44 mm, Pitch 5.08 mm; ComponentLink1URL: http://www.onsemi.com/; ComponentLink3Description: Package Specification; PackageReference: TO-220-2-221B-04_E; Packing: Tube; ComponentLink2Description: Datasheet
footprint ONSC-TO-220-2-221B-04_E (FM, 2-Leads, Body 10.3x4.85mm, Pitch 5.08mm)
pins: 1 K, 3 A

## Tekercs
designator L?
1.7 mH inductor; Category: Inductor
pins: 1 In, 2 Out

## USB_MIN_CMP-1698-00001-3
designator J?, comment USB_MIN
Mini USB B-Type, 5-Pin SMD, RoHS, Tape and Reel / 10033526-N3212LF; Height: 4 mm; PackageDescription: 5-Pin Surface Mount Device, Body 9.2 x 7.7 mm, Pitch 0.8 mm; ComponentLink2Description: Datasheet; Pins: 5; RoHSCompliant: True; DatasheetVersion: Rev. N; ComponentLink1Description: Manufacturer URL; Length: 9.9 mm; PartNumber: 10033526-N3212LF; Package Quantity: 1; Packaging: Tape and Reel; Mount: Surface Mount; Mounting Technology: Surface Mount; ComponentLink1URL: http://portal.fciconnect.com/; ComponentLink2URL: http://portal.fciconnect.com/Comergent//fci/drawing/10033526.pdf
footprint FCI-10033526-N3212LF_V (SMD, 5-Leads, Body 9.2x7.7mm, Pitch 0.8mm)
pins: 1 VBUS (power), 2 D-, 3 D+, 4 ID, 5 GND (power), 6 SHLD1, 7 SHLD2, 8 SHLD3, 9 SHLD4